# EAGLE library part E-SWITCH-DPDT (library aquarius)
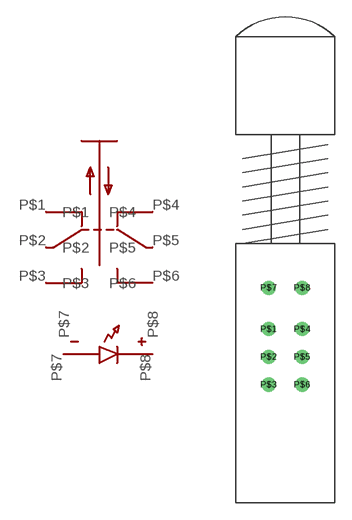
[diagram p6: symbol with the pads of E-SWITCH-DPDT; footprint E-SWITCH-DPDT]

Designator prefix -

## E-SWITCH-DPDT  [E-SWITCH-DPDT]
P$1  P$1
P$2  P$2
P$3  P$3
P$4  P$4
P$5  P$5
P$6  P$6
P$7  P$7
P$8  P$8

## Footprint E-SWITCH-DPDT (pad centres in mm)
E-Switch DPDT Blue LED
drill 0.75: P$1 -1.499,2.489; P$2 -1.499,0; P$3 -1.499,-2.489; P$4 1.499,2.489; P$5 1.499,0; P$6 1.499,-2.489; P$7 -1.499,6.198; P$8 1.499,6.198